# EAGLE library part USB_CONN (library Controller)
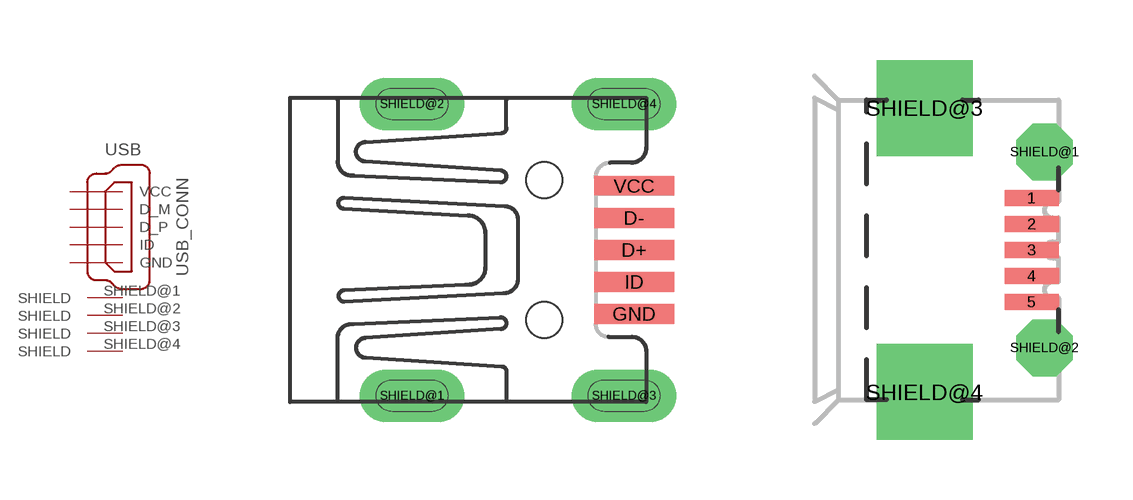
[diagram p1: symbol with the pads of UX60-MB-5S8; footprints UX60-MB-5S8, ZB62D-B-5PA8]

Designator prefix USB

## USB_CONN-MINI-FEMALE  [UX60-MB-5S8]
D+  D_P  in
D-  D_M  in
GND  GND  in
ID  ID  in
SHIELD@1  SHIELD
SHIELD@2  SHIELD
SHIELD@3  SHIELD
SHIELD@4  SHIELD
VCC  VCC  in

## USB_CONN-MICRO-FEMALE  [ZB62D-B-5PA8]
1  VCC  in
2  D_M  in
3  D_P  in
4  ID  in
5  GND  in
SHIELD@1  SHIELD
SHIELD@2  SHIELD
SHIELD@3  SHIELD
SHIELD@4  SHIELD

## USB_CONN-A-PCB  [USB-A-CARDEDGE]
5V  VCC  in
GND  GND  in
ID  ID  in
SHIELD@1  SHIELD
SHIELD@2  SHIELD
SHIELD@3  SHIELD
SHIELD@4  SHIELD
USB_M  D_M  in
USB_P  D_P  in

## Footprint UX60-MB-5S8 (pad centres in mm)
HiRose UX60-MB-5S8 Mini-USB Female
smd 2 x 0.5: D+ 8.65,0; D- 8.65,0.8; GND 8.65,-1.6; ID 8.65,-0.8; VCC 8.65,1.6
drill 0.8 long: SHIELD@1 3.1,-3.65; SHIELD@2 3.1,3.65; SHIELD@3 8.4,-3.65; SHIELD@4 8.4,3.65
hole 0.9 at 6.4,-1.75
hole 0.9 at 6.4,1.75

## Footprint ZB62D-B-5PA8 (pad centres in mm)
HiRose ZB62D-B-5PA8 Micro-USB Female
smd 1.35 x 0.4: 1 0.135,1.3; 2 0.135,0.65; 3 0.135,0; 4 0.135,-0.65; 5 0.135,-1.3
drill 0.8 pad 1.422 octagon: SHIELD@1 0.46,2.45; SHIELD@2 0.46,-2.45
drill 1.6 square: SHIELD@3 -2.54,3.556; SHIELD@4 -2.54,-3.556

## Footprint USB-A-CARDEDGE (pad centres in mm)
USB-A Male connector on the PCB card edge. Specify a 2.4mm PCB to friction-fit a standard USB port. Note- Available clearance varies from computer to computer. This distance has been found to work well with a variety of computers, but may protrude a lot of computers with lots of clearance.
smd 8.5 x 1.5: 5V -4.5,-3.5; GND -4.5,3.5
smd 0.305 x 0.152: ID -1.27,3.81; SHIELD@1 -2.54,3.81; SHIELD@2 -3.81,3.81; SHIELD@3 -5.08,3.81; SHIELD@4 -6.35,3.81
smd 7.5 x 1: USB_M -4,-1; USB_P -4,1